# Altium schematic symbol library M_PCB_Assy.Schlib: 1 symbol
Pins are listed as number, name and electrical type; pins without a type are passive.

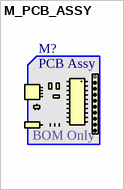
[diagram p0: symbol M_PCB_ASSY]

## M_PCB_ASSY
designator M?  (mechanical)
text: PCB Assy; BOM Only